# Altium schematic symbol library 2201818.SchLib: 1 symbol
Pins are listed as number, name and electrical type; pins without a type are passive.

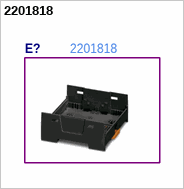
[diagram p0: symbol 2201818]

## 2201818
designator E?  Manufacturer Part Number: 2201818  (hidden comment: *)